# Altium integrated library Transistor.IntLib: 3457 symbols (part 65 of 78)
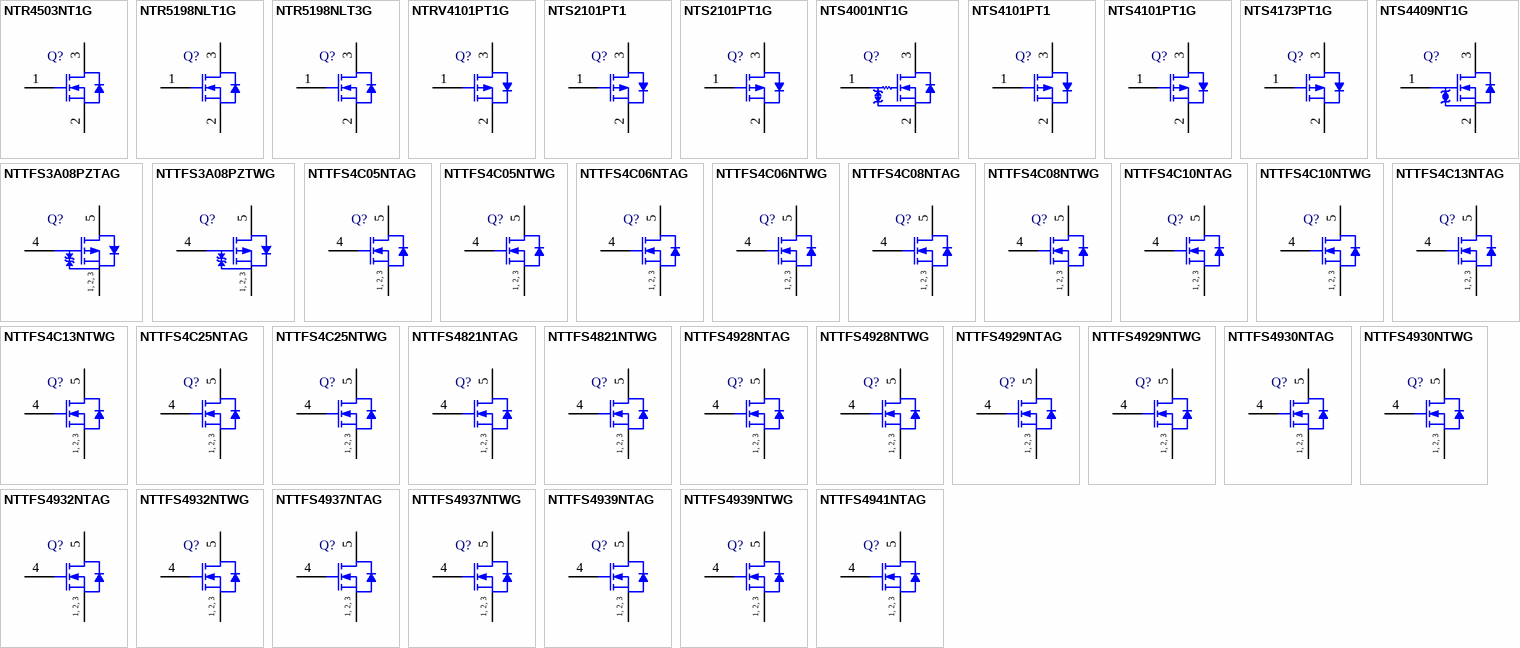
[diagram p158: symbols NTR4503NT1G to NTTFS4941NTAG]

## NTS2101PT1G
designator Q?
Power MOSFET, -8 V, -1.4 A, Single P-Channel, 3-Pin SOT-323, Pb-Free, Tape and Reel; Manufacturer: On Semiconductor; PartNumber: NTS2101PT1G; Channel Polarity: P Channel; Ciss Typ (pF): 640; Coss Typ (pF): 120; Crss Typ (pF): 82; ID Max (A): 1.4; Qrr Typ (nC): 9.5; V(BR)DSS Min (V): 8; DatasheetVersion: Rev. 1; PackageVersion: Rev. N, 11/2008; PackageReference: SOT-323-3-419-04; PackageDescription: 3-Pin Small Outline Transistor, Body 2 x 1.25 mm, Pitch 0.65 mm; Supplier 1: Digi-Key; Supplier Part Number 1: NTS2101PT1GOSTR-ND; Supplier 2: Digi-Key; Supplier Part Number 2: NTS2101PT1GOSCT-ND; Supplier 3: Digi-Key; Supplier Part Number 3: NTS2101PT1GOSDKR-ND; Supplier 4: Farnell; Supplier Part Number 4: 1453612RL; Supplier 5: Farnell; Supplier Part Number 5: 1453612; Supplier 6: Newark; Supplier Part Number 6: 10N9726; Supplier 7: Newark; Supplier Part Number 7: 45J2180; Supplier 8: Mouser; Supplier Part Number 8: 863-NTS2101PT1G; Configuration: Single; Package Type: SC-70-3 / SOT-323-3; Packing: Tape and Reel; RoHS: Pb-Free; VGS Max (V): 8; Mounting Technology: Surface Mount; ComponentLink1Description: Manufacturer URL; ComponentLink1URL: http://www.onsemi.com/; ComponentLink2Description: Datasheet; ComponentLink2URL: http://www.onsemi.cn/pub_link/Collateral/NTS2101P-D.PDF; ComponentLink3Description: Package Specification; ComponentLink3URL: http://www.onsemi.com/pub_link/Collateral/419-04.PDF
footprint ONSC-SOT-323-3-419-04_V (SOT23, 3-Leads, Body 2x1.25mm, Pitch 0.65mm)
pins: 1 G, 2 S, 3 D

## NTS4001NT1G
designator Q?
Small Signal MOSFET, 30 V, 270 mA, Single N-Channel, 3-Pin SC-70, Pb-Free, Tape and Reel; Manufacturer: On Semiconductor; PartNumber: NTS4001NT1G; Channel Polarity: N Channel; Ciss Typ (pF): 20; Coss Typ (pF): 19; Crss Typ (pF): 7.25; ID Max (A): 0.27; PD Max (W): 0.33; V(BR)DSS Min (V): 30; VGS(th) Max (V): 1.5; DatasheetVersion: Rev. 5; PackageVersion: Rev. N, 11/2008; PackageReference: SC-70-3-419-04; PackageDescription: 3-Pin Small Outline Transistor, Body 2 x 1.25 mm, Pitch 0.65 mm; Supplier 1: Digi-Key; Supplier Part Number 1: NTS4001NT1GOSTR-ND; Supplier 2: Digi-Key; Supplier Part Number 2: NTS4001NT1GOSCT-ND; Supplier 3: Digi-Key; Supplier Part Number 3: NTS4001NT1GOSDKR-ND; Supplier 4: Farnell; Supplier Part Number 4: 1453633; Supplier 5: Farnell; Supplier Part Number 5: 1453633RL; Supplier 6: Newark; Supplier Part Number 6: 83H7842; Supplier 7: Mouser; Supplier Part Number 7: 863-NTS4001NT1G; Configuration: Single; Package Type: SC-70-3; Packing: Tape and Reel; RoHS: Pb-Free; VGS Max (V): 20; Mounting Technology: Surface Mount; ComponentLink1Description: Manufacturer URL; ComponentLink1URL: http://www.onsemi.com/; ComponentLink2Description: Datasheet; ComponentLink2URL: http://www.onsemi.cn/pub_link/Collateral/NTS4001N-D.PDF; ComponentLink3Description: Package Specification; ComponentLink3URL: http://www.onsemi.cn/pub_link/Collateral/419-04.PDF
footprint ONSC-SC-70-3-419-04_V (SOT23, 3-Leads, Body 2x1.25mm, Pitch 0.65mm)
pins: 1 G, 2 S, 3 D

## NTS4101PT1
designator Q?
Power MOSFET, -20 V, -1.37 A, Single P-Channel, 3-Pin SOT-323, Tape and Reel; Manufacturer: On Semiconductor; PartNumber: NTS4101PT1; Channel Polarity: P Channel; Ciss Typ (pF): 603; Coss Typ (pF): 90; Crss Typ (pF): 62; ID Max (A): 1.37; PD Max (W): 0.329; Qrr Typ (nC): 4.25; V(BR)DSS Min (V): 20; VGS Max (V): 8; VGS(th) Max (V): 1.5; DatasheetVersion: Rev. 3; PackageVersion: Rev. N, 11/2008; PackageReference: SOT-323-3-419-04; PackageDescription: 3-Pin Small Outline Transistor, Body 2 x 1.25 mm, Pitch 0.65 mm; Supplier 1: Digi-Key; Supplier Part Number 1: NTS4101PT1-ND; Configuration: Single; Package Type: SC-70-3 / SOT-323-3; Packing: Tape and Reel; Mounting Technology: Surface Mount; ComponentLink1Description: Manufacturer URL; ComponentLink1URL: http://www.onsemi.com/; ComponentLink2Description: Datasheet; ComponentLink2URL: http://www.onsemi.cn/pub_link/Collateral/NTS4101P-D.PDF; ComponentLink3Description: Package Specification; ComponentLink3URL: http://www.onsemi.com/pub_link/Collateral/419-04.PDF
footprint ONSC-SOT-323-3-419-04_V (SOT23, 3-Leads, Body 2x1.25mm, Pitch 0.65mm)
pins: 1 G, 2 S, 3 D

## NTS4101PT1G
designator Q?
Power MOSFET, -20 V, -1.37 A, Single P-Channel, 3-Pin SOT-323, Pb-Free, Tape and Reel; Manufacturer: On Semiconductor; PartNumber: NTS4101PT1G; Channel Polarity: P Channel; Ciss Typ (pF): 603; Coss Typ (pF): 90; Crss Typ (pF): 62; ID Max (A): 1.37; PD Max (W): 0.329; Qrr Typ (nC): 4.25; V(BR)DSS Min (V): 20; VGS Max (V): 8; VGS(th) Max (V): 1.5; DatasheetVersion: Rev. 3; PackageVersion: Rev. N, 11/2008; PackageReference: SOT-323-3-419-04; PackageDescription: 3-Pin Small Outline Transistor, Body 2 x 1.25 mm, Pitch 0.65 mm; Supplier 1: Digi-Key; Supplier Part Number 1: NTS4101PT1GOSTR-ND; Supplier 2: Digi-Key; Supplier Part Number 2: NTS4101PT1GOSCT-ND; Supplier 3: Digi-Key; Supplier Part Number 3: NTS4101PT1GOSDKR-ND; Supplier 4: Farnell; Supplier Part Number 4: 1453617; Supplier 5: Farnell; Supplier Part Number 5: 1453617RL; Supplier 6: Newark; Supplier Part Number 6: 10N9727; Supplier 7: Mouser; Supplier Part Number 7: 863-NTS4101PT1G; Configuration: Single; Package Type: SC-70-3 / SOT-323-3; Packing: Tape and Reel; RoHS: Pb-Free; Mounting Technology: Surface Mount; ComponentLink1Description: Manufacturer URL; ComponentLink1URL: http://www.onsemi.com/; ComponentLink2Description: Datasheet; ComponentLink2URL: http://www.onsemi.cn/pub_link/Collateral/NTS4101P-D.PDF; ComponentLink3Description: Package Specification; ComponentLink3URL: http://www.onsemi.com/pub_link/Collateral/419-04.PDF
footprint ONSC-SOT-323-3-419-04_V (SOT23, 3-Leads, Body 2x1.25mm, Pitch 0.65mm)
pins: 1 G, 2 S, 3 D

## NTS4173PT1G
designator Q?
Power MOSFET, -30 V, -1.3 A, Single P-Channel, 3-Pin SC-70, Pb-Free, Tape and Reel; Manufacturer: On Semiconductor; PartNumber: NTS4173PT1G; Channel Polarity: P Channel; Ciss Typ (pF): 430; Coss Typ (pF): 55; Crss Typ (pF): 40; Qrr Typ (nC): 7; V(BR)DSS Min (V): 30; VGS Max (V): 12; VGS(th) Max (V): 1.5; DatasheetVersion: Rev. 0; PackageVersion: Rev. N, 11/2008; PackageReference: SC-70-3-419-04; PackageDescription: 3-Pin Small Outline Transistor, Body 2 x 1.25 mm, Pitch 0.65 mm; Supplier 1: Digi-Key; Supplier Part Number 1: NTS4173PT1GOSTR-ND; Supplier 2: Digi-Key; Supplier Part Number 2: NTS4173PT1GOSCT-ND; Supplier 3: Digi-Key; Supplier Part Number 3: NTS4173PT1GOSDKR-ND; Supplier 4: Farnell; Supplier Part Number 4: 2368459; Supplier 5: Farnell; Supplier Part Number 5: 1890733; Supplier 6: Newark; Supplier Part Number 6: 08R4029; Supplier 7: Newark; Supplier Part Number 7: 05R9182; Supplier 8: Mouser; Supplier Part Number 8: 863-NTS4173PT1G; Configuration: Single; Package Type: SC-70-3 / SOT-323-3; Packing: Tape and Reel; RoHS: Pb-Free; Mounting Technology: Surface Mount; ComponentLink1Description: Manufacturer URL; ComponentLink1URL: http://www.onsemi.com/; ComponentLink2Description: Datasheet; ComponentLink2URL: http://www.onsemi.cn/pub_link/Collateral/NTS4173P-D.PDF; ComponentLink3Description: Package Specification; ComponentLink3URL: http://www.onsemi.cn/pub_link/Collateral/419-04.PDF
footprint ONSC-SC-70-3-419-04_V (SOT23, 3-Leads, Body 2x1.25mm, Pitch 0.65mm)
pins: 1 G, 2 S, 3 D

## NTS4409NT1G
designator Q?
Small Signal MOSFET, 25 V, 0.75 A, Single, N-Channel, ESD Protection, 3-Pin SOT-323, Pb-Free, Tape and Reel; Manufacturer: On Semiconductor; PartNumber: NTS4409NT1G; Channel Polarity: N Channel; Ciss Typ (pF): 49; Coss Typ (pF): 22.4; Crss Typ (pF): 8; ID Max (A): 0.75; V(BR)DSS Min (V): 25; VGS(th) Max (V): 1.5; DatasheetVersion: Rev. 4; PackageVersion: Rev. N, 11/2008; PackageReference: SOT-323-3-419-04; PackageDescription: 3-Pin Small Outline Transistor, Body 2 x 1.25 mm, Pitch 0.65 mm; Supplier 1: Digi-Key; Supplier Part Number 1: NTS4409NT1GOSTR-ND; Supplier 2: Digi-Key; Supplier Part Number 2: NTS4409NT1GOSCT-ND; Supplier 3: Digi-Key; Supplier Part Number 3: NTS4409NT1GOSDKR-ND; Supplier 4: Farnell; Supplier Part Number 4: 2145742; Supplier 5: Newark; Supplier Part Number 5: 09R9672; Supplier 6: Newark; Supplier Part Number 6: 70K4033; Supplier 7: Mouser; Supplier Part Number 7: 863-NTS4409NT1G; Configuration: Single; Package Type: SC-70-3 / SOT-323-3; Packing: Tape and Reel; RoHS: Pb-Free; VGS Max (V): 8; Mounting Technology: Surface Mount; ComponentLink1Description: Manufacturer URL; ComponentLink1URL: http://www.onsemi.com/; ComponentLink2Description: Datasheet; ComponentLink2URL: http://www.onsemi.cn/pub_link/Collateral/NTS4409N-D.PDF; ComponentLink3Description: Package Specification; ComponentLink3URL: http://www.onsemi.com/pub_link/Collateral/419-04.PDF
footprint ONSC-SOT-323-3-419-04_V (SOT23, 3-Leads, Body 2x1.25mm, Pitch 0.65mm)
pins: 1 G, 2 S, 3 D

## NTTFS3A08PZTAG
designator Q?
Power MOSFET, -20 V, -15 A, Single P-Channel, 8-Pin WDFN, Pb-Free, Tape and Reel; Manufacturer: On Semiconductor; PartNumber: NTTFS3A08PZTAG; Channel Polarity: P Channel; Ciss Typ (pF): 5000; Coss Typ (pF): 600; Crss Typ (pF): 540; ID Max (A): 15; Qrr Typ (nC): 234; V(BR)DSS Min (V): 20; VGS Max (V): 8; VGS(th) Max (V): 1; DatasheetVersion: Rev. 2; PackageVersion: Rev. D, 04/2012; PackageReference: WDFN-8-511AB; PackageDescription: 8-Pin Small Outline No-Lead, Body 3.05 x 3.05 mm, Pitch 0.65 mm; Supplier 1: Newark; Supplier Part Number 1: 45W3760; Supplier 2: Mouser; Supplier Part Number 2: 863-NTTFS3A08PZTAG; Configuration: Single; Package Type: u8FL / WDFN-8; Packing: Tape and Reel; RoHS: Pb-Free; Mounting Technology: Surface Mount; ComponentLink1Description: Manufacturer URL; ComponentLink1URL: http://www.onsemi.com/; ComponentLink2Description: Datasheet; ComponentLink2URL: http://www.onsemi.cn/pub_link/Collateral/NTTFS3A08PZ-D.PDF; ComponentLink3Description: Package Specification; ComponentLink3URL: http://www.onsemi.com/pub_link/Collateral/511AB.PDF
footprint ONSC-WDFN-8-511AB_V (DFN, 8-Leads, Body 3.05x3.05mm, Pitch 0.65mm)
pins: 1 S, 2 S, 3 S, 4 G, 5 D
text: 1, 2, 3

## NTTFS3A08PZTWG
designator Q?
Power MOSFET, -20 V, -15 A, Single P-Channel, 8-Pin WDFN, Pb-Free, Tape and Reel; Manufacturer: On Semiconductor; PartNumber: NTTFS3A08PZTWG; Channel Polarity: P Channel; Ciss Typ (pF): 5000; Coss Typ (pF): 600; Crss Typ (pF): 540; ID Max (A): 15; Qrr Typ (nC): 234; V(BR)DSS Min (V): 20; VGS Max (V): 8; VGS(th) Max (V): 1; DatasheetVersion: Rev. 2; PackageVersion: Rev. D, 04/2012; PackageReference: WDFN-8-511AB; PackageDescription: 8-Pin Small Outline No-Lead, Body 3.05 x 3.05 mm, Pitch 0.65 mm; Supplier 1: Mouser; Supplier Part Number 1: 863-NTTFS3A08PZTWG; Configuration: Single; Package Type: u8FL / WDFN-8; Packing: Tape and Reel; RoHS: Pb-Free; Mounting Technology: Surface Mount; ComponentLink1Description: Manufacturer URL; ComponentLink1URL: http://www.onsemi.com/; ComponentLink2Description: Datasheet; ComponentLink2URL: http://www.onsemi.cn/pub_link/Collateral/NTTFS3A08PZ-D.PDF; ComponentLink3Description: Package Specification; ComponentLink3URL: http://www.onsemi.com/pub_link/Collateral/511AB.PDF
footprint ONSC-WDFN-8-511AB_V (DFN, 8-Leads, Body 3.05x3.05mm, Pitch 0.65mm)
pins: 1 S, 2 S, 3 S, 4 G, 5 D
text: 1, 2, 3

## NTTFS4C05NTAG
designator Q?
Power MOSFET, 30 V, 75 A, Single N-Channel, 8-Pin WDFN, Pb-Free, Tape and Reel; Manufacturer: On Semiconductor; PartNumber: NTTFS4C05NTAG; Channel Polarity: N Channel; Ciss Typ (pF): 1988; Coss Typ (pF): 1224; Crss Typ (pF): 71; ID Max (A): 75; Qrr Typ (nC): 34.4; V(BR)DSS Min (V): 30; VGS Max (V): 20; VGS(th) Max (V): 2.2; DatasheetVersion: Rev. 1; PackageVersion: Rev. D, 04/2012; PackageReference: WDFN-8-511AB; PackageDescription: 8-Pin Small Outline No-Lead, Body 3.05 x 3.05 mm, Pitch 0.65 mm; Supplier 1: Newark; Supplier Part Number 1: 60W1812; Supplier 2: Mouser; Supplier Part Number 2: 863-NTTFS4C05NTAG; Configuration: Single; Package Type: u8FL / WDFN-8; Packing: Tape and Reel; RoHS: Pb-Free; Mounting Technology: Surface Mount; ComponentLink1Description: Manufacturer URL; ComponentLink1URL: http://www.onsemi.com/; ComponentLink2Description: Datasheet; ComponentLink2URL: http://www.onsemi.cn/pub_link/Collateral/NTTFS4C05N-D.PDF; ComponentLink3Description: Package Specification; ComponentLink3URL: http://www.onsemi.com/pub_link/Collateral/511AB.PDF
footprint ONSC-WDFN-8-511AB_V (DFN, 8-Leads, Body 3.05x3.05mm, Pitch 0.65mm)
pins: 1 S, 2 S, 3 S, 4 G, 5 D
text: 1, 2, 3

## NTTFS4C05NTWG
designator Q?
Power MOSFET, 30 V, 75 A, Single N-Channel, 8-Pin WDFN, Pb-Free, Tape and Reel; Manufacturer: On Semiconductor; PartNumber: NTTFS4C05NTWG; Channel Polarity: N Channel; Ciss Typ (pF): 1988; Coss Typ (pF): 1224; Crss Typ (pF): 71; ID Max (A): 75; Qrr Typ (nC): 34.4; V(BR)DSS Min (V): 30; VGS Max (V): 20; VGS(th) Max (V): 2.2; DatasheetVersion: Rev. 1; PackageVersion: Rev. D, 04/2012; PackageReference: WDFN-8-511AB; PackageDescription: 8-Pin Small Outline No-Lead, Body 3.05 x 3.05 mm, Pitch 0.65 mm; Supplier 1: Newark; Supplier Part Number 1: 60W1813; Supplier 2: Mouser; Supplier Part Number 2: 863-NTTFS4C05NTWG; Configuration: Single; Package Type: u8FL / WDFN-8; Packing: Tape and Reel; RoHS: Pb-Free; Mounting Technology: Surface Mount; ComponentLink1Description: Manufacturer URL; ComponentLink1URL: http://www.onsemi.com/; ComponentLink2Description: Datasheet; ComponentLink2URL: http://www.onsemi.cn/pub_link/Collateral/NTTFS4C05N-D.PDF; ComponentLink3Description: Package Specification; ComponentLink3URL: http://www.onsemi.com/pub_link/Collateral/511AB.PDF
footprint ONSC-WDFN-8-511AB_V (DFN, 8-Leads, Body 3.05x3.05mm, Pitch 0.65mm)
pins: 1 S, 2 S, 3 S, 4 G, 5 D
text: 1, 2, 3

## NTTFS4C06NTAG
designator Q?
Power MOSFET, 30 V, 67 A, Single N-Channel, 8-Pin WDFN, Pb-Free, Tape and Reel; Manufacturer: On Semiconductor; PartNumber: NTTFS4C06NTAG; Channel Polarity: N Channel; Ciss Typ (pF): 1683; Coss Typ (pF): 841; Crss Typ (pF): 40; ID Max (A): 67; Qrr Typ (nC): 22; V(BR)DSS Min (V): 30; VGS Max (V): 20; VGS(th) Max (V): 2.2; DatasheetVersion: Rev. 0; PackageVersion: Rev. D, 04/2012; PackageReference: WDFN-8-511AB; PackageDescription: 8-Pin Small Outline No-Lead, Body 3.05 x 3.05 mm, Pitch 0.65 mm; Supplier 1: Newark; Supplier Part Number 1: 11X3691; Supplier 2: Mouser; Supplier Part Number 2: 863-NTTFS4C06NTAG; Configuration: Single; Package Type: u8FL / WDFN-8; Packing: Tape and Reel; RoHS: Pb-Free; Mounting Technology: Surface Mount; ComponentLink1Description: Manufacturer URL; ComponentLink1URL: http://www.onsemi.com/; ComponentLink2Description: Datasheet; ComponentLink2URL: http://www.onsemi.com/pub_link/Collateral/NTTFS4C06N-D.PDF; ComponentLink3Description: Package Specification; ComponentLink3URL: http://www.onsemi.com/pub_link/Collateral/511AB.PDF
footprint ONSC-WDFN-8-511AB_V (DFN, 8-Leads, Body 3.05x3.05mm, Pitch 0.65mm)
pins: 1 S, 2 S, 3 S, 4 G, 5 D
text: 1, 2, 3

## NTTFS4C06NTWG
designator Q?
Power MOSFET, 30 V, 67 A, Single N-Channel, 8-Pin WDFN, Pb-Free, Tape and Reel; Manufacturer: On Semiconductor; PartNumber: NTTFS4C06NTWG; Channel Polarity: N Channel; Ciss Typ (pF): 1683; Coss Typ (pF): 841; Crss Typ (pF): 40; ID Max (A): 67; Qrr Typ (nC): 22; V(BR)DSS Min (V): 30; VGS Max (V): 20; VGS(th) Max (V): 2.2; DatasheetVersion: Rev. 0; PackageVersion: Rev. D, 04/2012; PackageReference: WDFN-8-511AB; PackageDescription: 8-Pin Small Outline No-Lead, Body 3.05 x 3.05 mm, Pitch 0.65 mm; Supplier 1: Newark; Supplier Part Number 1: 11X3692; Supplier 2: Mouser; Supplier Part Number 2: 863-NTTFS4C06NTWG; Configuration: Single; Package Type: u8FL / WDFN-8; Packing: Tape and Reel; RoHS: Pb-Free; Mounting Technology: Surface Mount; ComponentLink1Description: Manufacturer URL; ComponentLink1URL: http://www.onsemi.com/; ComponentLink2Description: Datasheet; ComponentLink2URL: http://www.onsemi.com/pub_link/Collateral/NTTFS4C06N-D.PDF; ComponentLink3Description: Package Specification; ComponentLink3URL: http://www.onsemi.com/pub_link/Collateral/511AB.PDF
footprint ONSC-WDFN-8-511AB_V (DFN, 8-Leads, Body 3.05x3.05mm, Pitch 0.65mm)
pins: 1 S, 2 S, 3 S, 4 G, 5 D
text: 1, 2, 3

## NTTFS4C08NTAG
designator Q?
Power MOSFET, 30 V, 52 A, Single N-Channel, 8-Pin WDFN, Pb-Free, Tape and Reel; Manufacturer: On Semiconductor; PartNumber: NTTFS4C08NTAG; Channel Polarity: N Channel; Ciss Typ (pF): 1113; Coss Typ (pF): 702; Crss Typ (pF): 39; ID Max (A): 52; Qrr Typ (nC): 15.3; V(BR)DSS Min (V): 30; VGS Max (V): 20; VGS(th) Max (V): 2.2; DatasheetVersion: Rev. 1; PackageVersion: Rev. D, 04/2012; PackageReference: WDFN-8-511AB; PackageDescription: 8-Pin Small Outline No-Lead, Body 3.05 x 3.05 mm, Pitch 0.65 mm; Supplier 1: Newark; Supplier Part Number 1: 11X3693; Supplier 2: Mouser; Supplier Part Number 2: 863-NTTFS4C08NTAG; Configuration: Single; Package Type: u8FL / WDFN-8; Packing: Tape and Reel; RoHS: Pb-Free; Mounting Technology: Surface Mount; ComponentLink1Description: Manufacturer URL; ComponentLink1URL: http://www.onsemi.com/; ComponentLink2Description: Datasheet; ComponentLink2URL: http://www.onsemi.com/pub_link/Collateral/NTTFS4C08N-D.PDF; ComponentLink3Description: Package Specification; ComponentLink3URL: http://www.onsemi.com/pub_link/Collateral/511AB.PDF
footprint ONSC-WDFN-8-511AB_V (DFN, 8-Leads, Body 3.05x3.05mm, Pitch 0.65mm)
pins: 1 S, 2 S, 3 S, 4 G, 5 D
text: 1, 2, 3

## NTTFS4C08NTWG
designator Q?
Power MOSFET, 30 V, 52 A, Single N-Channel, 8-Pin WDFN, Pb-Free, Tape and Reel; Manufacturer: On Semiconductor; PartNumber: NTTFS4C08NTWG; Channel Polarity: N Channel; Ciss Typ (pF): 1113; Coss Typ (pF): 702; Crss Typ (pF): 39; ID Max (A): 52; Qrr Typ (nC): 15.3; V(BR)DSS Min (V): 30; VGS Max (V): 20; VGS(th) Max (V): 2.2; DatasheetVersion: Rev. 1; PackageVersion: Rev. D, 04/2012; PackageReference: WDFN-8-511AB; PackageDescription: 8-Pin Small Outline No-Lead, Body 3.05 x 3.05 mm, Pitch 0.65 mm; Supplier 1: Newark; Supplier Part Number 1: 11X3694; Supplier 2: Mouser; Supplier Part Number 2: 863-NTTFS4C08NTWG; Configuration: Single; Package Type: u8FL / WDFN-8; Packing: Tape and Reel; RoHS: Pb-Free; Mounting Technology: Surface Mount; ComponentLink1Description: Manufacturer URL; ComponentLink1URL: http://www.onsemi.com/; ComponentLink2Description: Datasheet; ComponentLink2URL: http://www.onsemi.com/pub_link/Collateral/NTTFS4C08N-D.PDF; ComponentLink3Description: Package Specification; ComponentLink3URL: http://www.onsemi.com/pub_link/Collateral/511AB.PDF
footprint ONSC-WDFN-8-511AB_V (DFN, 8-Leads, Body 3.05x3.05mm, Pitch 0.65mm)
pins: 1 S, 2 S, 3 S, 4 G, 5 D
text: 1, 2, 3

## NTTFS4C10NTAG
designator Q?
Power MOSFET, 30 V, 44 A, Single N-Channel, 8-Pin WDFN, Pb-Free, Tape and Reel; Manufacturer: On Semiconductor; PartNumber: NTTFS4C10NTAG; Channel Polarity: N Channel; Ciss Typ (pF): 993; Coss Typ (pF): 574; Crss Typ (pF): 163; ID Max (A): 44; Qrr Typ (nC): 8.3; V(BR)DSS Min (V): 30; VGS Max (V): 20; VGS(th) Max (V): 2.2; DatasheetVersion: Rev. 2; PackageVersion: Rev. D, 04/2012; PackageReference: WDFN-8-511AB; PackageDescription: 8-Pin Small Outline No-Lead, Body 3.05 x 3.05 mm, Pitch 0.65 mm; Supplier 1: Newark; Supplier Part Number 1: 60W1814; Supplier 2: Mouser; Supplier Part Number 2: 863-NTTFS4C10NTAG; Configuration: Single; Package Type: u8FL / WDFN-8; Packing: Tape and Reel; RoHS: Pb-Free; Mounting Technology: Surface Mount; ComponentLink1Description: Manufacturer URL; ComponentLink1URL: http://www.onsemi.com/; ComponentLink2Description: Datasheet; ComponentLink2URL: http://www.onsemi.cn/pub_link/Collateral/NTTFS4C10N-D.PDF; ComponentLink3Description: Package Specification; ComponentLink3URL: http://www.onsemi.com/pub_link/Collateral/511AB.PDF
footprint ONSC-WDFN-8-511AB_V (DFN, 8-Leads, Body 3.05x3.05mm, Pitch 0.65mm)
pins: 1 S, 2 S, 3 S, 4 G, 5 D
text: 1, 2, 3

## NTTFS4C10NTWG
designator Q?
Power MOSFET, 30 V, 44 A, Single N-Channel, 8-Pin WDFN, Pb-Free, Tape and Reel; Manufacturer: On Semiconductor; PartNumber: NTTFS4C10NTWG; Channel Polarity: N Channel; Ciss Typ (pF): 993; Coss Typ (pF): 574; Crss Typ (pF): 163; ID Max (A): 44; Qrr Typ (nC): 8.3; V(BR)DSS Min (V): 30; VGS Max (V): 20; VGS(th) Max (V): 2.2; DatasheetVersion: Rev. 2; PackageVersion: Rev. D, 04/2012; PackageReference: WDFN-8-511AB; PackageDescription: 8-Pin Small Outline No-Lead, Body 3.05 x 3.05 mm, Pitch 0.65 mm; Supplier 1: Newark; Supplier Part Number 1: 60W1815; Supplier 2: Mouser; Supplier Part Number 2: 863-NTTFS4C10NTWG; Configuration: Single; Package Type: u8FL / WDFN-8; Packing: Tape and Reel; RoHS: Pb-Free; Mounting Technology: Surface Mount; ComponentLink1Description: Manufacturer URL; ComponentLink1URL: http://www.onsemi.com/; ComponentLink2Description: Datasheet; ComponentLink2URL: http://www.onsemi.cn/pub_link/Collateral/NTTFS4C10N-D.PDF; ComponentLink3Description: Package Specification; ComponentLink3URL: http://www.onsemi.com/pub_link/Collateral/511AB.PDF
footprint ONSC-WDFN-8-511AB_V (DFN, 8-Leads, Body 3.05x3.05mm, Pitch 0.65mm)
pins: 1 S, 2 S, 3 S, 4 G, 5 D
text: 1, 2, 3

## NTTFS4C13NTAG
designator Q?
Power MOSFET, 30 V, 38 A, Single N-Channel, 8-Pin WDFN, Pb-Free, Tape and Reel; Manufacturer: On Semiconductor; PartNumber: NTTFS4C13NTAG; Channel Polarity: N Channel; Ciss Typ (pF): 770; Coss Typ (pF): 443; Crss Typ (pF): 127; ID Max (A): 38; Qrr Typ (nC): 9.7; V(BR)DSS Min (V): 30; VGS Max (V): 20; VGS(th) Max (V): 2.1; DatasheetVersion: Rev. 0; PackageVersion: Rev. D, 04/2012; PackageReference: WDFN-8-511AB; PackageDescription: 8-Pin Small Outline No-Lead, Body 3.05 x 3.05 mm, Pitch 0.65 mm; Supplier 1: Newark; Supplier Part Number 1: 11X3695; Supplier 2: Mouser; Supplier Part Number 2: 863-NTTFS4C13NTAG; Configuration: Single; Package Type: u8FL / WDFN-8; Packing: Tape and Reel; RoHS: Pb-Free; Mounting Technology: Surface Mount; ComponentLink1Description: Manufacturer URL; ComponentLink1URL: http://www.onsemi.com/; ComponentLink2Description: Datasheet; ComponentLink2URL: http://www.onsemi.com/pub_link/Collateral/NTTFS4C13N-D.PDF; ComponentLink3Description: Package Specification; ComponentLink3URL: http://www.onsemi.com/pub_link/Collateral/511AB.PDF
footprint ONSC-WDFN-8-511AB_V (DFN, 8-Leads, Body 3.05x3.05mm, Pitch 0.65mm)
pins: 1 S, 2 S, 3 S, 4 G, 5 D
text: 1, 2, 3

## NTTFS4C13NTWG
designator Q?
Power MOSFET, 30 V, 38 A, Single N-Channel, 8-Pin WDFN, Pb-Free, Tape and Reel; Manufacturer: On Semiconductor; PartNumber: NTTFS4C13NTWG; Channel Polarity: N Channel; Ciss Typ (pF): 770; Coss Typ (pF): 443; Crss Typ (pF): 127; ID Max (A): 38; Qrr Typ (nC): 9.7; V(BR)DSS Min (V): 30; VGS Max (V): 20; VGS(th) Max (V): 2.1; DatasheetVersion: Rev. 0; PackageVersion: Rev. D, 04/2012; PackageReference: WDFN-8-511AB; PackageDescription: 8-Pin Small Outline No-Lead, Body 3.05 x 3.05 mm, Pitch 0.65 mm; Supplier 1: Newark; Supplier Part Number 1: 11X3696; Supplier 2: Mouser; Supplier Part Number 2: 863-NTTFS4C13NTWG; Configuration: Single; Package Type: u8FL / WDFN-8; Packing: Tape and Reel; RoHS: Pb-Free; Mounting Technology: Surface Mount; ComponentLink1Description: Manufacturer URL; ComponentLink1URL: http://www.onsemi.com/; ComponentLink2Description: Datasheet; ComponentLink2URL: http://www.onsemi.com/pub_link/Collateral/NTTFS4C13N-D.PDF; ComponentLink3Description: Package Specification; ComponentLink3URL: http://www.onsemi.com/pub_link/Collateral/511AB.PDF
footprint ONSC-WDFN-8-511AB_V (DFN, 8-Leads, Body 3.05x3.05mm, Pitch 0.65mm)
pins: 1 S, 2 S, 3 S, 4 G, 5 D
text: 1, 2, 3

## NTTFS4C25NTAG
designator Q?
Power MOSFET, 30 V, 27 A, Single N-Channel, 8-Pin WDFN, Pb-Free, Tape and Reel; Manufacturer: On Semiconductor; PartNumber: NTTFS4C25NTAG; Channel Polarity: N Channel; Ciss Typ (pF): 500; Coss Typ (pF): 295; Crss Typ (pF): 85; ID Max (A): 27; Qrr Typ (nC): 5.7; V(BR)DSS Min (V): 30; VGS Max (V): 20; VGS(th) Max (V): 2.2; DatasheetVersion: Rev. 0; PackageVersion: Rev. D, 04/2012; PackageReference: WDFN-8-511AB; PackageDescription: 8-Pin Small Outline No-Lead, Body 3.05 x 3.05 mm, Pitch 0.65 mm; Supplier 1: Newark; Supplier Part Number 1: 60W1816; Supplier 2: Mouser; Supplier Part Number 2: 863-NTTFS4C25NTAG; Configuration: Single; Package Type: u8FL / WDFN-8; Packing: Tape and Reel; RoHS: Pb-Free; Mounting Technology: Surface Mount; ComponentLink1Description: Manufacturer URL; ComponentLink1URL: http://www.onsemi.com/; ComponentLink2Description: Datasheet; ComponentLink2URL: http://www.onsemi.cn/pub_link/Collateral/NTTFS4C25N-D.PDF; ComponentLink3Description: Package Specification; ComponentLink3URL: http://www.onsemi.com/pub_link/Collateral/511AB.PDF
footprint ONSC-WDFN-8-511AB_V (DFN, 8-Leads, Body 3.05x3.05mm, Pitch 0.65mm)
pins: 1 S, 2 S, 3 S, 4 G, 5 D
text: 1, 2, 3

## NTTFS4C25NTWG
designator Q?
Power MOSFET, 30 V, 27 A, Single N-Channel, 8-Pin WDFN, Pb-Free, Tape and Reel; Manufacturer: On Semiconductor; PartNumber: NTTFS4C25NTWG; Channel Polarity: N Channel; Ciss Typ (pF): 500; Coss Typ (pF): 295; Crss Typ (pF): 85; ID Max (A): 27; Qrr Typ (nC): 5.7; V(BR)DSS Min (V): 30; VGS Max (V): 20; VGS(th) Max (V): 2.2; DatasheetVersion: Rev. 0; PackageVersion: Rev. D, 04/2012; PackageReference: WDFN-8-511AB; PackageDescription: 8-Pin Small Outline No-Lead, Body 3.05 x 3.05 mm, Pitch 0.65 mm; Supplier 1: Newark; Supplier Part Number 1: 60W1817; Supplier 2: Mouser; Supplier Part Number 2: 863-NTTFS4C25NTWG; Configuration: Single; Package Type: u8FL / WDFN-8; Packing: Tape and Reel; RoHS: Pb-Free; Mounting Technology: Surface Mount; ComponentLink1Description: Manufacturer URL; ComponentLink1URL: http://www.onsemi.com/; ComponentLink2Description: Datasheet; ComponentLink2URL: http://www.onsemi.cn/pub_link/Collateral/NTTFS4C25N-D.PDF; ComponentLink3Description: Package Specification; ComponentLink3URL: http://www.onsemi.com/pub_link/Collateral/511AB.PDF
footprint ONSC-WDFN-8-511AB_V (DFN, 8-Leads, Body 3.05x3.05mm, Pitch 0.65mm)
pins: 1 S, 2 S, 3 S, 4 G, 5 D
text: 1, 2, 3

## NTTFS4821NTAG
designator Q?
Power MOSFET, 30 V, 57 A, Single N-Channel, 8-Pin WDFN, Pb-Free, Tape and Reel; Manufacturer: On Semiconductor; PartNumber: NTTFS4821NTAG; Channel Polarity: N Channel; Ciss Typ (pF): 1300; Coss Typ (pF): 300; Crss Typ (pF): 150; ID Max (A): 57; Qrr Typ (nC): 1.7; V(BR)DSS Min (V): 30; VGS Max (V): 20; VGS(th) Max (V): 2.5; DatasheetVersion: Rev. 5; PackageVersion: Rev. D, 04/2012; PackageReference: WDFN-8-511AB; PackageDescription: 8-Pin Small Outline No-Lead, Body 3.05 x 3.05 mm, Pitch 0.65 mm; Supplier 1: Digi-Key; Supplier Part Number 1: NTTFS4821NTAGOSTR-ND; Supplier 2: Digi-Key; Supplier Part Number 2: NTTFS4821NTAGOSCT-ND; Supplier 3: Digi-Key; Supplier Part Number 3: NTTFS4821NTAGOSDKR-ND; Supplier 4: Mouser; Supplier Part Number 4: 863-NTTFS4821NTAG; Configuration: Single; Package Type: u8FL / WDFN-8; Packing: Tape and Reel; RoHS: Pb-Free; Mounting Technology: Surface Mount; ComponentLink1Description: Manufacturer URL; ComponentLink1URL: http://www.onsemi.com/; ComponentLink2Description: Datasheet; ComponentLink2URL: http://www.onsemi.cn/pub_link/Collateral/NTTFS4821N-D.PDF; ComponentLink3Description: Package Specification; ComponentLink3URL: http://www.onsemi.com/pub_link/Collateral/511AB.PDF
footprint ONSC-WDFN-8-511AB_V (DFN, 8-Leads, Body 3.05x3.05mm, Pitch 0.65mm)
pins: 1 S, 2 S, 3 S, 4 G, 5 D
text: 1, 2, 3

## NTTFS4821NTWG
designator Q?
Power MOSFET, 30 V, 57 A, Single N-Channel, 8-Pin WDFN, Pb-Free, Tape and Reel; Manufacturer: On Semiconductor; PartNumber: NTTFS4821NTWG; Channel Polarity: N Channel; Ciss Typ (pF): 1300; Coss Typ (pF): 300; Crss Typ (pF): 150; ID Max (A): 57; Qrr Typ (nC): 1.7; V(BR)DSS Min (V): 30; VGS Max (V): 20; VGS(th) Max (V): 2.5; DatasheetVersion: Rev. 5; PackageVersion: Rev. D, 04/2012; PackageReference: WDFN-8-511AB; PackageDescription: 8-Pin Small Outline No-Lead, Body 3.05 x 3.05 mm, Pitch 0.65 mm; Supplier 1: Digi-Key; Supplier Part Number 1: NTTFS4821NTWG-ND; Supplier 2: Mouser; Supplier Part Number 2: 863-NTTFS4821NTWG; Configuration: Single; Package Type: u8FL / WDFN-8; Packing: Tape and Reel; RoHS: Pb-Free; Mounting Technology: Surface Mount; ComponentLink1Description: Manufacturer URL; ComponentLink1URL: http://www.onsemi.com/; ComponentLink2Description: Datasheet; ComponentLink2URL: http://www.onsemi.cn/pub_link/Collateral/NTTFS4821N-D.PDF; ComponentLink3Description: Package Specification; ComponentLink3URL: http://www.onsemi.com/pub_link/Collateral/511AB.PDF
footprint ONSC-WDFN-8-511AB_V (DFN, 8-Leads, Body 3.05x3.05mm, Pitch 0.65mm)
pins: 1 S, 2 S, 3 S, 4 G, 5 D
text: 1, 2, 3

## NTTFS4928NTAG
designator Q?
Power MOSFET, 30 V, 37 A, Single N-Channel, 8-Pin WDFN, Pb-Free, Tape and Reel; Manufacturer: On Semiconductor; PartNumber: NTTFS4928NTAG; Channel Polarity: N Channel; Ciss Typ (pF): 913; Coss Typ (pF): 366; Crss Typ (pF): 108; ID Max (A): 37; Qrr Typ (nC): 8.4; V(BR)DSS Min (V): 30; VGS Max (V): 20; VGS(th) Max (V): 2.2; DatasheetVersion: Rev. 2; PackageVersion: Rev. D, 04/2012; PackageReference: WDFN-8-511AB; PackageDescription: 8-Pin Small Outline No-Lead, Body 3.05 x 3.05 mm, Pitch 0.65 mm; Supplier 1: Digi-Key; Supplier Part Number 1: NTTFS4928NTAGOSTR-ND; Supplier 2: Digi-Key; Supplier Part Number 2: NTTFS4928NTAGOSCT-ND; Supplier 3: Digi-Key; Supplier Part Number 3: NTTFS4928NTAGOSDKR-ND; Supplier 4: Mouser; Supplier Part Number 4: 863-NTTFS4928NTAG; Configuration: Single; Package Type: u8FL / WDFN-8; Packing: Tape and Reel; RoHS: Pb-Free; Mounting Technology: Surface Mount; ComponentLink1Description: Manufacturer URL; ComponentLink1URL: http://www.onsemi.com/; ComponentLink2Description: Datasheet; ComponentLink2URL: http://www.onsemi.cn/pub_link/Collateral/NTTFS4928N-D.PDF; ComponentLink3Description: Package Specification; ComponentLink3URL: http://www.onsemi.com/pub_link/Collateral/511AB.PDF
footprint ONSC-WDFN-8-511AB_V (DFN, 8-Leads, Body 3.05x3.05mm, Pitch 0.65mm)
pins: 1 S, 2 S, 3 S, 4 G, 5 D
text: 1, 2, 3

## NTTFS4928NTWG
designator Q?
Power MOSFET, 30 V, 37 A, Single N-Channel, 8-Pin WDFN, Pb-Free, Tape and Reel; Manufacturer: On Semiconductor; PartNumber: NTTFS4928NTWG; Channel Polarity: N Channel; Ciss Typ (pF): 913; Coss Typ (pF): 366; Crss Typ (pF): 108; ID Max (A): 37; Qrr Typ (nC): 8.4; V(BR)DSS Min (V): 30; VGS Max (V): 20; VGS(th) Max (V): 2.2; DatasheetVersion: Rev. 2; PackageVersion: Rev. D, 04/2012; PackageReference: WDFN-8-511AB; PackageDescription: 8-Pin Small Outline No-Lead, Body 3.05 x 3.05 mm, Pitch 0.65 mm; Supplier 1: Digi-Key; Supplier Part Number 1: NTTFS4928NTWG-ND; Supplier 2: Newark; Supplier Part Number 2: 52T8341; Supplier 3: Mouser; Supplier Part Number 3: 863-NTTFS4928NTWG; Configuration: Single; Package Type: u8FL / WDFN-8; Packing: Tape and Reel; RoHS: Pb-Free; Mounting Technology: Surface Mount; ComponentLink1Description: Manufacturer URL; ComponentLink1URL: http://www.onsemi.com/; ComponentLink2Description: Datasheet; ComponentLink2URL: http://www.onsemi.cn/pub_link/Collateral/NTTFS4928N-D.PDF; ComponentLink3Description: Package Specification; ComponentLink3URL: http://www.onsemi.com/pub_link/Collateral/511AB.PDF
footprint ONSC-WDFN-8-511AB_V (DFN, 8-Leads, Body 3.05x3.05mm, Pitch 0.65mm)
pins: 1 S, 2 S, 3 S, 4 G, 5 D
text: 1, 2, 3

## NTTFS4929NTAG
designator Q?
Power MOSFET, 30 V, 34 A, Single N-Channel, 8-Pin WDFN, Pb-Free, Tape and Reel; Manufacturer: On Semiconductor; PartNumber: NTTFS4929NTAG; Channel Polarity: N Channel; Ciss Typ (pF): 920; Coss Typ (pF): 337; Crss Typ (pF): 175; ID Max (A): 34; Qrr Typ (nC): 9.1; V(BR)DSS Min (V): 30; VGS Max (V): 20; VGS(th) Max (V): 2.2; DatasheetVersion: Rev. 1; PackageVersion: Rev. D, 04/2012; PackageReference: WDFN-8-511AB; PackageDescription: 8-Pin Small Outline No-Lead, Body 3.05 x 3.05 mm, Pitch 0.65 mm; Supplier 1: Digi-Key; Supplier Part Number 1: NTTFS4929NTAG-ND; Supplier 2: Mouser; Supplier Part Number 2: 863-NTTFS4929NTAG; Configuration: Single; Package Type: u8FL / WDFN-8; Packing: Tape and Reel; RoHS: Pb-Free; Mounting Technology: Surface Mount; ComponentLink1Description: Manufacturer URL; ComponentLink1URL: http://www.onsemi.com/; ComponentLink2Description: Datasheet; ComponentLink2URL: http://www.onsemi.cn/pub_link/Collateral/NTTFS4929N.PDF; ComponentLink3Description: Package Specification; ComponentLink3URL: http://www.onsemi.com/pub_link/Collateral/511AB.PDF
footprint ONSC-WDFN-8-511AB_V (DFN, 8-Leads, Body 3.05x3.05mm, Pitch 0.65mm)
pins: 1 S, 2 S, 3 S, 4 G, 5 D
text: 1, 2, 3

## NTTFS4929NTWG
designator Q?
Power MOSFET, 30 V, 34 A, Single N-Channel, 8-Pin WDFN, Pb-Free, Tape and Reel; Manufacturer: On Semiconductor; PartNumber: NTTFS4929NTWG; Channel Polarity: N Channel; Ciss Typ (pF): 920; Coss Typ (pF): 337; Crss Typ (pF): 175; ID Max (A): 34; Qrr Typ (nC): 9.1; V(BR)DSS Min (V): 30; VGS Max (V): 20; VGS(th) Max (V): 2.2; DatasheetVersion: Rev. 1; PackageVersion: Rev. D, 04/2012; PackageReference: WDFN-8-511AB; PackageDescription: 8-Pin Small Outline No-Lead, Body 3.05 x 3.05 mm, Pitch 0.65 mm; Supplier 1: Digi-Key; Supplier Part Number 1: NTTFS4929NTWG-ND; Supplier 2: Mouser; Supplier Part Number 2: 863-NTTFS4929NTWG; Configuration: Single; Package Type: u8FL / WDFN-8; Packing: Tape and Reel; RoHS: Pb-Free; Mounting Technology: Surface Mount; ComponentLink1Description: Manufacturer URL; ComponentLink1URL: http://www.onsemi.com/; ComponentLink2Description: Datasheet; ComponentLink2URL: http://www.onsemi.cn/pub_link/Collateral/NTTFS4929N.PDF; ComponentLink3Description: Package Specification; ComponentLink3URL: http://www.onsemi.com/pub_link/Collateral/511AB.PDF
footprint ONSC-WDFN-8-511AB_V (DFN, 8-Leads, Body 3.05x3.05mm, Pitch 0.65mm)
pins: 1 S, 2 S, 3 S, 4 G, 5 D
text: 1, 2, 3

## NTTFS4930NTAG
designator Q?
Power MOSFET, 30 V, 23 A, Single N-Channel, 8-Pin WDFN, Pb-Free, Tape and Reel; Manufacturer: On Semiconductor; PartNumber: NTTFS4930NTAG; Channel Polarity: N Channel; Ciss Typ (pF): 476; Coss Typ (pF): 197; Crss Typ (pF): 101; ID Max (A): 23; Qrr Typ (nC): 4.6; V(BR)DSS Min (V): 30; VGS Max (V): 20; VGS(th) Max (V): 2.2; DatasheetVersion: Rev. 2; PackageVersion: Rev. D, 04/2012; PackageReference: WDFN-8-511AB; PackageDescription: 8-Pin Small Outline No-Lead, Body 3.05 x 3.05 mm, Pitch 0.65 mm; Supplier 1: Digi-Key; Supplier Part Number 1: NTTFS4930NTAG-ND; Supplier 2: Mouser; Supplier Part Number 2: 863-NTTFS4930NTAG; Configuration: Single; Package Type: u8FL / WDFN-8; Packing: Tape and Reel; RoHS: Pb-Free; Mounting Technology: Surface Mount; ComponentLink1Description: Manufacturer URL; ComponentLink1URL: http://www.onsemi.com/; ComponentLink2Description: Datasheet; ComponentLink2URL: http://www.onsemi.cn/pub_link/Collateral/NTTFS4930N-D.PDF; ComponentLink3Description: Package Specification; ComponentLink3URL: http://www.onsemi.com/pub_link/Collateral/511AB.PDF
footprint ONSC-WDFN-8-511AB_V (DFN, 8-Leads, Body 3.05x3.05mm, Pitch 0.65mm)
pins: 1 S, 2 S, 3 S, 4 G, 5 D
text: 1, 2, 3

## NTTFS4930NTWG
designator Q?
Power MOSFET, 30 V, 23 A, Single N-Channel, 8-Pin WDFN, Pb-Free, Tape and Reel; Manufacturer: On Semiconductor; PartNumber: NTTFS4930NTWG; Channel Polarity: N Channel; Ciss Typ (pF): 476; Coss Typ (pF): 197; Crss Typ (pF): 101; ID Max (A): 23; Qrr Typ (nC): 4.6; V(BR)DSS Min (V): 30; VGS Max (V): 20; VGS(th) Max (V): 2.2; DatasheetVersion: Rev. 2; PackageVersion: Rev. D, 04/2012; PackageReference: WDFN-8-511AB; PackageDescription: 8-Pin Small Outline No-Lead, Body 3.05 x 3.05 mm, Pitch 0.65 mm; Supplier 1: Digi-Key; Supplier Part Number 1: NTTFS4930NTWG-ND; Supplier 2: Mouser; Supplier Part Number 2: 863-NTTFS4930NTWG; Configuration: Single; Package Type: u8FL / WDFN-8; Packing: Tape and Reel; RoHS: Pb-Free; Mounting Technology: Surface Mount; ComponentLink1Description: Manufacturer URL; ComponentLink1URL: http://www.onsemi.com/; ComponentLink2Description: Datasheet; ComponentLink2URL: http://www.onsemi.cn/pub_link/Collateral/NTTFS4930N-D.PDF; ComponentLink3Description: Package Specification; ComponentLink3URL: http://www.onsemi.com/pub_link/Collateral/511AB.PDF
footprint ONSC-WDFN-8-511AB_V (DFN, 8-Leads, Body 3.05x3.05mm, Pitch 0.65mm)
pins: 1 S, 2 S, 3 S, 4 G, 5 D
text: 1, 2, 3

## NTTFS4932NTAG
designator Q?
Power MOSFET, 30 V, 79 A, Single N-Channel, 8-Pin WDFN, Pb-Free, Tape and Reel; Manufacturer: On Semiconductor; PartNumber: NTTFS4932NTAG; Channel Polarity: N Channel; Ciss Typ (pF): 3111; Coss Typ (pF): 1064; Crss Typ (pF): 42; ID Max (A): 79; Qrr Typ (nC): 37.5; V(BR)DSS Min (V): 30; VGS Max (V): 20; VGS(th) Max (V): 2.2; DatasheetVersion: Rev. 2; PackageVersion: Rev. D, 04/2012; PackageReference: WDFN-8-511AB; PackageDescription: 8-Pin Small Outline No-Lead, Body 3.05 x 3.05 mm, Pitch 0.65 mm; Supplier 1: Digi-Key; Supplier Part Number 1: NTTFS4932NTAGOSTR-ND; Supplier 2: Digi-Key; Supplier Part Number 2: NTTFS4932NTAGOSCT-ND; Supplier 3: Digi-Key; Supplier Part Number 3: NTTFS4932NTAGOSDKR-ND; Supplier 4: Mouser; Supplier Part Number 4: 863-NTTFS4932NTAG; Configuration: Single; Package Type: u8FL / WDFN-8; Packing: Tape and Reel; RoHS: Pb-Free; Mounting Technology: Surface Mount; ComponentLink1Description: Manufacturer URL; ComponentLink1URL: http://www.onsemi.com/; ComponentLink2Description: Datasheet; ComponentLink2URL: http://www.onsemi.cn/pub_link/Collateral/NTTFS4932N-D.PDF; ComponentLink3Description: Package Specification; ComponentLink3URL: http://www.onsemi.com/pub_link/Collateral/511AB.PDF
footprint ONSC-WDFN-8-511AB_V (DFN, 8-Leads, Body 3.05x3.05mm, Pitch 0.65mm)
pins: 1 S, 2 S, 3 S, 4 G, 5 D
text: 1, 2, 3

## NTTFS4932NTWG
designator Q?
Power MOSFET, 30 V, 79 A, Single N-Channel, 8-Pin WDFN, Pb-Free, Tape and Reel; Manufacturer: On Semiconductor; PartNumber: NTTFS4932NTWG; Channel Polarity: N Channel; Ciss Typ (pF): 3111; Coss Typ (pF): 1064; Crss Typ (pF): 42; ID Max (A): 79; Qrr Typ (nC): 37.5; V(BR)DSS Min (V): 30; VGS Max (V): 20; VGS(th) Max (V): 2.2; DatasheetVersion: Rev. 2; PackageVersion: Rev. D, 04/2012; PackageReference: WDFN-8-511AB; PackageDescription: 8-Pin Small Outline No-Lead, Body 3.05 x 3.05 mm, Pitch 0.65 mm; Supplier 1: Digi-Key; Supplier Part Number 1: NTTFS4932NTWG-ND; Supplier 2: Mouser; Supplier Part Number 2: 863-NTTFS4932NTWG; Configuration: Single; Package Type: u8FL / WDFN-8; Packing: Tape and Reel; RoHS: Pb-Free; Mounting Technology: Surface Mount; ComponentLink1Description: Manufacturer URL; ComponentLink1URL: http://www.onsemi.com/; ComponentLink2Description: Datasheet; ComponentLink2URL: http://www.onsemi.cn/pub_link/Collateral/NTTFS4932N-D.PDF; ComponentLink3Description: Package Specification; ComponentLink3URL: http://www.onsemi.com/pub_link/Collateral/511AB.PDF
footprint ONSC-WDFN-8-511AB_V (DFN, 8-Leads, Body 3.05x3.05mm, Pitch 0.65mm)
pins: 1 S, 2 S, 3 S, 4 G, 5 D
text: 1, 2, 3

## NTTFS4937NTAG
designator Q?
Power MOSFET, 30 V, 75 A, Single N-Channel, 8-Pin WDFN, Pb-Free, Tape and Reel; Manufacturer: On Semiconductor; PartNumber: NTTFS4937NTAG; Channel Polarity: N Channel; Ciss Typ (pF): 2540; Coss Typ (pF): 893; Crss Typ (pF): 26; ID Max (A): 75; Qrr Typ (nC): 33; V(BR)DSS Min (V): 30; VGS Max (V): 20; VGS(th) Max (V): 2.2; DatasheetVersion: Rev. 3; PackageVersion: Rev. D, 04/2012; PackageReference: WDFN-8-511AB; PackageDescription: 8-Pin Small Outline No-Lead, Body 3.05 x 3.05 mm, Pitch 0.65 mm; Supplier 1: Digi-Key; Supplier Part Number 1: NTTFS4937NTAG-ND; Supplier 2: Mouser; Supplier Part Number 2: 863-NTTFS4937NTAG; Configuration: Single; Package Type: u8FL / WDFN-8; Packing: Tape and Reel; RoHS: Pb-Free; Mounting Technology: Surface Mount; ComponentLink1Description: Manufacturer URL; ComponentLink1URL: http://www.onsemi.com/; ComponentLink2Description: Datasheet; ComponentLink2URL: http://www.onsemi.cn/pub_link/Collateral/NTTFS4937N-D.PDF; ComponentLink3Description: Package Specification; ComponentLink3URL: http://www.onsemi.com/pub_link/Collateral/511AB.PDF
footprint ONSC-WDFN-8-511AB_V (DFN, 8-Leads, Body 3.05x3.05mm, Pitch 0.65mm)
pins: 1 S, 2 S, 3 S, 4 G, 5 D
text: 1, 2, 3

## NTTFS4937NTWG
designator Q?
Power MOSFET, 30 V, 75 A, Single N-Channel, 8-Pin WDFN, Pb-Free, Tape and Reel; Manufacturer: On Semiconductor; PartNumber: NTTFS4937NTWG; Channel Polarity: N Channel; Ciss Typ (pF): 2540; Coss Typ (pF): 893; Crss Typ (pF): 26; ID Max (A): 75; Qrr Typ (nC): 33; V(BR)DSS Min (V): 30; VGS Max (V): 20; VGS(th) Max (V): 2.2; DatasheetVersion: Rev. 3; PackageVersion: Rev. D, 04/2012; PackageReference: WDFN-8-511AB; PackageDescription: 8-Pin Small Outline No-Lead, Body 3.05 x 3.05 mm, Pitch 0.65 mm; Supplier 1: Digi-Key; Supplier Part Number 1: NTTFS4937NTWG-ND; Supplier 2: Mouser; Supplier Part Number 2: 863-NTTFS4937NTWG; Configuration: Single; Package Type: u8FL / WDFN-8; Packing: Tape and Reel; RoHS: Pb-Free; Mounting Technology: Surface Mount; ComponentLink1Description: Manufacturer URL; ComponentLink1URL: http://www.onsemi.com/; ComponentLink2Description: Datasheet; ComponentLink2URL: http://www.onsemi.cn/pub_link/Collateral/NTTFS4937N-D.PDF; ComponentLink3Description: Package Specification; ComponentLink3URL: http://www.onsemi.com/pub_link/Collateral/511AB.PDF
footprint ONSC-WDFN-8-511AB_V (DFN, 8-Leads, Body 3.05x3.05mm, Pitch 0.65mm)
pins: 1 S, 2 S, 3 S, 4 G, 5 D
text: 1, 2, 3

## NTTFS4939NTAG
designator Q?
Power MOSFET, 30 V, 52 A, Single N-Channel, 8-Pin WDFN, Pb-Free, Tape and Reel; Manufacturer: On Semiconductor; PartNumber: NTTFS4939NTAG; Channel Polarity: N Channel; Ciss Typ (pF): 1979; Coss Typ (pF): 711; Crss Typ (pF): 20.2; ID Max (A): 52; Qrr Typ (nC): 28; V(BR)DSS Min (V): 30; VGS Max (V): 20; VGS(th) Max (V): 2.2; DatasheetVersion: Rev. 3; PackageVersion: Rev. D, 04/2012; PackageReference: WDFN-8-511AB; PackageDescription: 8-Pin Small Outline No-Lead, Body 3.05 x 3.05 mm, Pitch 0.65 mm; Supplier 1: Digi-Key; Supplier Part Number 1: NTTFS4939NTAG-ND; Supplier 2: Newark; Supplier Part Number 2: 52R8727; Supplier 3: Mouser; Supplier Part Number 3: 863-NTTFS4939NTAG; Configuration: Single; Package Type: u8FL / WDFN-8; Packing: Tape and Reel; RoHS: Pb-Free; Mounting Technology: Surface Mount; ComponentLink1Description: Manufacturer URL; ComponentLink1URL: http://www.onsemi.com/; ComponentLink2Description: Datasheet; ComponentLink2URL: http://www.onsemi.cn/pub_link/Collateral/NTTFS4939N-D.PDF; ComponentLink3Description: Package Specification; ComponentLink3URL: http://www.onsemi.com/pub_link/Collateral/511AB.PDF
footprint ONSC-WDFN-8-511AB_V (DFN, 8-Leads, Body 3.05x3.05mm, Pitch 0.65mm)
pins: 1 S, 2 S, 3 S, 4 G, 5 D
text: 1, 2, 3

## NTTFS4939NTWG
designator Q?
Power MOSFET, 30 V, 52 A, Single N-Channel, 8-Pin WDFN, Pb-Free, Tape and Reel; Manufacturer: On Semiconductor; PartNumber: NTTFS4939NTWG; Channel Polarity: N Channel; Ciss Typ (pF): 1979; Coss Typ (pF): 711; Crss Typ (pF): 20.2; ID Max (A): 52; Qrr Typ (nC): 28; V(BR)DSS Min (V): 30; VGS Max (V): 20; VGS(th) Max (V): 2.2; DatasheetVersion: Rev. 3; PackageVersion: Rev. D, 04/2012; PackageReference: WDFN-8-511AB; PackageDescription: 8-Pin Small Outline No-Lead, Body 3.05 x 3.05 mm, Pitch 0.65 mm; Supplier 1: Digi-Key; Supplier Part Number 1: NTTFS4939NTWG-ND; Supplier 2: Newark; Supplier Part Number 2: 52R8728; Supplier 3: Mouser; Supplier Part Number 3: 863-NTTFS4939NTWG; Configuration: Single; Package Type: u8FL / WDFN-8; Packing: Tape and Reel; RoHS: Pb-Free; Mounting Technology: Surface Mount; ComponentLink1Description: Manufacturer URL; ComponentLink1URL: http://www.onsemi.com/; ComponentLink2Description: Datasheet; ComponentLink2URL: http://www.onsemi.cn/pub_link/Collateral/NTTFS4939N-D.PDF; ComponentLink3Description: Package Specification; ComponentLink3URL: http://www.onsemi.com/pub_link/Collateral/511AB.PDF
footprint ONSC-WDFN-8-511AB_V (DFN, 8-Leads, Body 3.05x3.05mm, Pitch 0.65mm)
pins: 1 S, 2 S, 3 S, 4 G, 5 D
text: 1, 2, 3

## NTTFS4941NTAG
designator Q?
Power MOSFET, 30 V, 46 A, Single N-Channel, 8-Pin WDFN, Pb-Free, Tape and Reel; Manufacturer: On Semiconductor; PartNumber: NTTFS4941NTAG; Channel Polarity: N Channel; Ciss Typ (pF): 1619; Coss Typ (pF): 573; Crss Typ (pF): 18; ID Max (A): 46; Qrr Typ (nC): 22; V(BR)DSS Min (V): 30; VGS Max (V): 20; VGS(th) Max (V): 2.2; DatasheetVersion: Rev. 2; PackageVersion: Rev. D, 04/2012; PackageReference: WDFN-8-511AB; PackageDescription: 8-Pin Small Outline No-Lead, Body 3.05 x 3.05 mm, Pitch 0.65 mm; Supplier 1: Digi-Key; Supplier Part Number 1: NTTFS4941NTAG-ND; Supplier 2: Mouser; Supplier Part Number 2: 863-NTTFS4941NTAG; Configuration: Single; Package Type: u8FL / WDFN-8; Packing: Tape and Reel; RoHS: Pb-Free; Mounting Technology: Surface Mount; ComponentLink1Description: Manufacturer URL; ComponentLink1URL: http://www.onsemi.com/; ComponentLink2Description: Datasheet; ComponentLink2URL: http://www.onsemi.cn/pub_link/Collateral/NTTFS4941N-D.PDF; ComponentLink3Description: Package Specification; ComponentLink3URL: http://www.onsemi.com/pub_link/Collateral/511AB.PDF
footprint ONSC-WDFN-8-511AB_V (DFN, 8-Leads, Body 3.05x3.05mm, Pitch 0.65mm)
pins: 1 S, 2 S, 3 S, 4 G, 5 D
text: 1, 2, 3

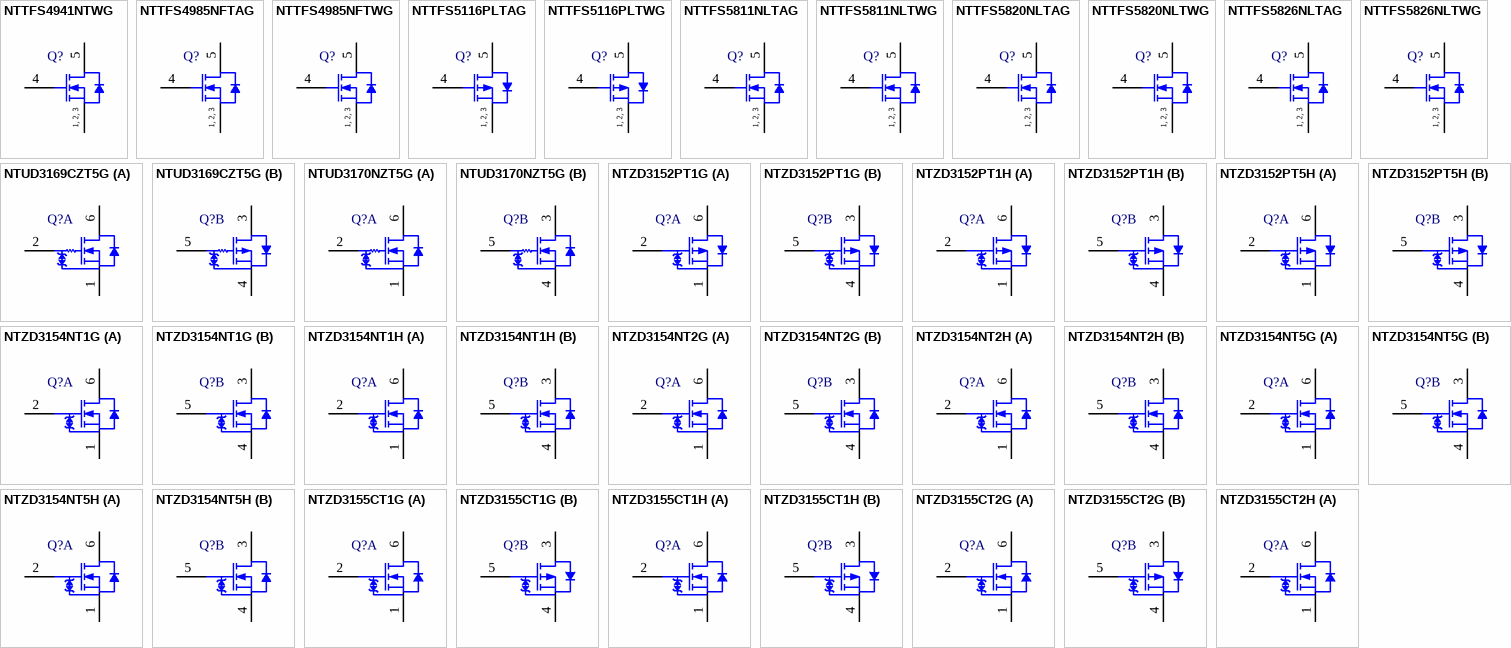
[diagram p79: symbols NTTFS4941NTWG to NTZD3155CT2H]

## NTTFS4941NTWG
designator Q?
Power MOSFET, 30 V, 46 A, Single N-Channel, 8-Pin WDFN, Pb-Free, Tape and Reel; Manufacturer: On Semiconductor; PartNumber: NTTFS4941NTWG; Channel Polarity: N Channel; Ciss Typ (pF): 1619; Coss Typ (pF): 573; Crss Typ (pF): 18; ID Max (A): 46; Qrr Typ (nC): 22; V(BR)DSS Min (V): 30; VGS Max (V): 20; VGS(th) Max (V): 2.2; DatasheetVersion: Rev. 2; PackageVersion: Rev. D, 04/2012; PackageReference: WDFN-8-511AB; PackageDescription: 8-Pin Small Outline No-Lead, Body 3.05 x 3.05 mm, Pitch 0.65 mm; Supplier 1: Digi-Key; Supplier Part Number 1: NTTFS4941NTWG-ND; Supplier 2: Mouser; Supplier Part Number 2: 863-NTTFS4941NTWG; Configuration: Single; Package Type: u8FL / WDFN-8; Packing: Tape and Reel; RoHS: Pb-Free; Mounting Technology: Surface Mount; ComponentLink1Description: Manufacturer URL; ComponentLink1URL: http://www.onsemi.com/; ComponentLink2Description: Datasheet; ComponentLink2URL: http://www.onsemi.cn/pub_link/Collateral/NTTFS4941N-D.PDF; ComponentLink3Description: Package Specification; ComponentLink3URL: http://www.onsemi.com/pub_link/Collateral/511AB.PDF
footprint ONSC-WDFN-8-511AB_V (DFN, 8-Leads, Body 3.05x3.05mm, Pitch 0.65mm)
pins: 1 S, 2 S, 3 S, 4 G, 5 D
text: 1, 2, 3

## NTTFS4985NFTAG
designator Q?
Power MOSFET, 30 V, 64 A, Single N-Channel, 8-Pin WDFN, Pb-Free, Tape and Reel; Manufacturer: On Semiconductor; PartNumber: NTTFS4985NFTAG; Channel Polarity: N Channel; Ciss Typ (pF): 2075; Configuration: with Schottky Diode; Coss Typ (pF): 876; Crss Typ (pF): 46; ID Max (A): 64; Qrr Typ (nC): 32; V(BR)DSS Min (V): 30; VGS Max (V): 20; VGS(th) Max (V): 2.3; DatasheetVersion: Rev. 1; PackageVersion: Rev. D, 04/2012; PackageReference: WDFN-8-511AB; PackageDescription: 8-Pin Small Outline No-Lead, Body 3.05 x 3.05 mm, Pitch 0.65 mm; Supplier 1: Digi-Key; Supplier Part Number 1: NTTFS4985NFTAGOSTR-ND; Supplier 2: Digi-Key; Supplier Part Number 2: NTTFS4985NFTAGOSCT-ND; Supplier 3: Digi-Key; Supplier Part Number 3: NTTFS4985NFTAGOSDKR-ND; Supplier 4: Newark; Supplier Part Number 4: 92T2209; Supplier 5: Mouser; Supplier Part Number 5: 863-NTTFS4985NFTAG; Package Type: u8FL / WDFN-8; Packing: Tape and Reel; RoHS: Pb-Free; Mounting Technology: Surface Mount; ComponentLink1Description: Manufacturer URL; ComponentLink1URL: http://www.onsemi.com/; ComponentLink2Description: Datasheet; ComponentLink2URL: http://www.onsemi.cn/pub_link/Collateral/NTTFS4985NF-D.PDF; ComponentLink3Description: Package Specification; ComponentLink3URL: http://www.onsemi.com/pub_link/Collateral/511AB.PDF
footprint ONSC-WDFN-8-511AB_V (DFN, 8-Leads, Body 3.05x3.05mm, Pitch 0.65mm)
pins: 1 S, 2 S, 3 S, 4 G, 5 D
text: 1, 2, 3

## NTTFS4985NFTWG
designator Q?
Power MOSFET, 30 V, 64 A, Single N-Channel, 8-Pin WDFN, Pb-Free, Tape and Reel; Manufacturer: On Semiconductor; PartNumber: NTTFS4985NFTWG; Channel Polarity: N Channel; Ciss Typ (pF): 2075; Configuration: with Schottky Diode; Coss Typ (pF): 876; Crss Typ (pF): 46; ID Max (A): 64; Qrr Typ (nC): 32; V(BR)DSS Min (V): 30; VGS Max (V): 20; VGS(th) Max (V): 2.3; DatasheetVersion: Rev. 1; PackageVersion: Rev. D, 04/2012; PackageReference: WDFN-8-511AB; PackageDescription: 8-Pin Small Outline No-Lead, Body 3.05 x 3.05 mm, Pitch 0.65 mm; Package Type: u8FL / WDFN-8; Packing: Tape and Reel; RoHS: Pb-Free; Mounting Technology: Surface Mount; ComponentLink1Description: Manufacturer URL; ComponentLink1URL: http://www.onsemi.com/; ComponentLink2Description: Datasheet; ComponentLink2URL: http://www.onsemi.cn/pub_link/Collateral/NTTFS4985NF-D.PDF; ComponentLink3Description: Package Specification; ComponentLink3URL: http://www.onsemi.com/pub_link/Collateral/511AB.PDF
footprint ONSC-WDFN-8-511AB_V (DFN, 8-Leads, Body 3.05x3.05mm, Pitch 0.65mm)
pins: 1 S, 2 S, 3 S, 4 G, 5 D
text: 1, 2, 3

## NTTFS5116PLTAG
designator Q?
Power MOSFET, -60 V, -20 A, 52 mOhm, 8-Pin WDFN, Pb-Free, Tape and Reel; Manufacturer: On Semiconductor; PartNumber: NTTFS5116PLTAG; Channel Polarity: P Channel; Ciss Typ (pF): 1258; Configuration: Single; Coss Typ (pF): 127; Crss Typ (pF): 84; ID Max (A): 20; Qrr Typ (nC): 19; V(BR)DSS Min (V): 60; VGS(th) Max (V): 3; DatasheetVersion: Rev. 1; PackageVersion: Rev. D, 04/2012; PackageReference: WDFN-8-511AB; PackageDescription: 8-Pin Small Outline No-Lead, Body 3.05 x 3.05 mm, Pitch 0.65 mm; Supplier 1: Digi-Key; Supplier Part Number 1: NTTFS5116PLTAGOSTR-ND; Supplier 2: Digi-Key; Supplier Part Number 2: NTTFS5116PLTAGOSCT-ND; Supplier 3: Digi-Key; Supplier Part Number 3: NTTFS5116PLTAGOSDKR-ND; Supplier 4: Mouser; Supplier Part Number 4: 863-NTTFS5116PLTAG; Package Type: u8FL / WDFN-8; Packing: Tape and Reel; RoHS: Pb-Free; VGS Max (V): 20; Mounting Technology: Surface Mount; ComponentLink1Description: Manufacturer URL; ComponentLink1URL: http://www.onsemi.com/; ComponentLink2Description: Datasheet; ComponentLink2URL: http://www.onsemi.cn/pub_link/Collateral/NTTFS5116PL-D.PDF; ComponentLink3Description: Package Specification; ComponentLink3URL: http://www.onsemi.com/pub_link/Collateral/511AB.PDF
footprint ONSC-WDFN-8-511AB_V (DFN, 8-Leads, Body 3.05x3.05mm, Pitch 0.65mm)
pins: 1 S, 2 S, 3 S, 4 G, 5 D
text: 1, 2, 3